# Altium footprint library TRANSISTOR.PcbLib: 7 footprints
Each footprint in its own frame and in the unit in brackets; x right, y up, seen from the top. Pads: shape width x height; smd on the part's side, far side on the other; paste and mask are expansions set on the pad; w line width, h text height; cw(c..) or ccw(c..) is an arc to the next point about the centre after c.
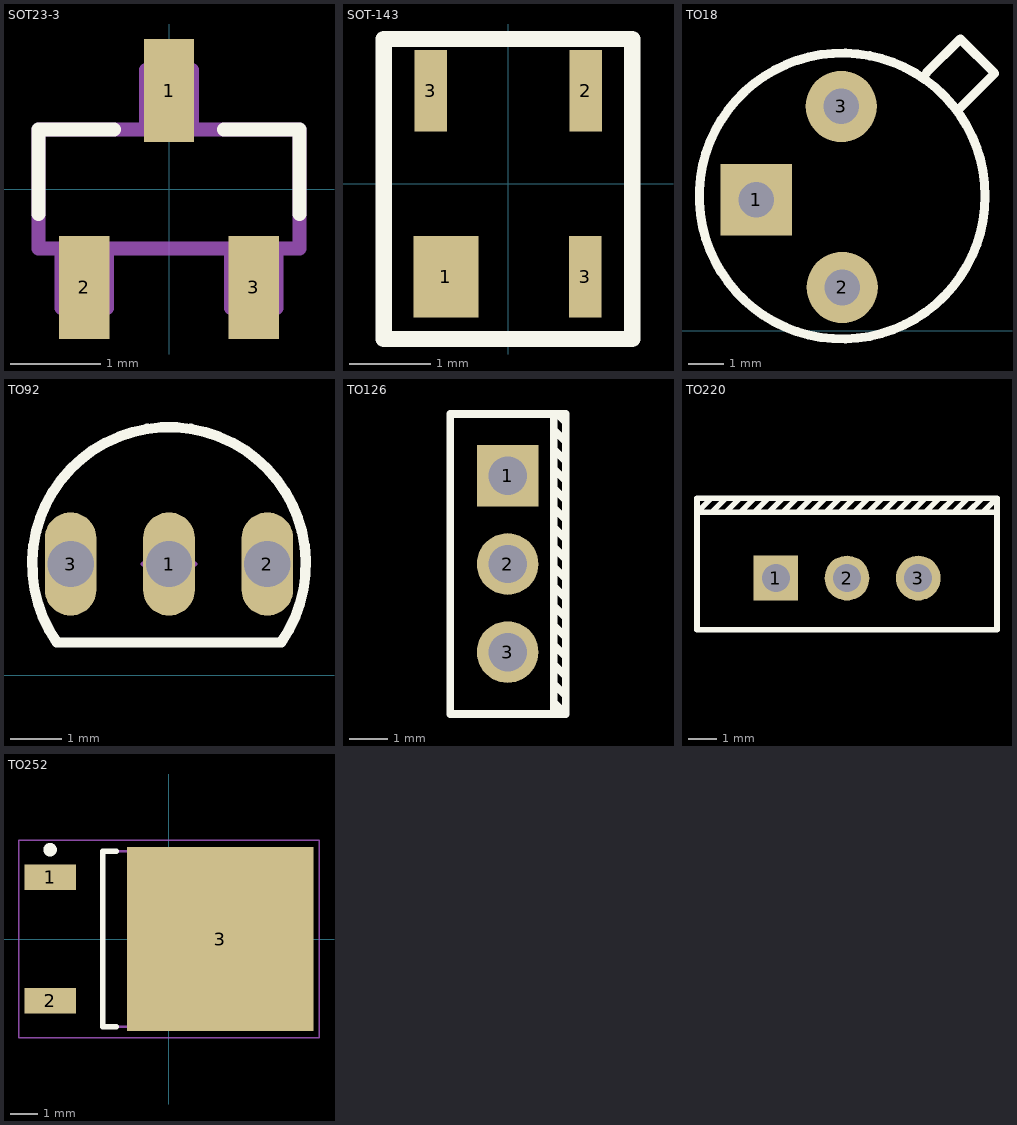
[diagram p0: the footprints below, top view; thin cyan lines are the x and y axes]

## SOT23-3 [mil]
pads (3):
  rect 22x45 smd: 1(0,43) 2(-37,-43) 3(37,-43)
Top Overlay:
  lines w6: -57,-11 -57,26 -24,26 ; 24,26 57,26 57,-11
Mechanical 13:
  lines w6: -57,-26 57,-26 57,26 -57,26 -57,-26 ; -47,-52 -47,-26 -27,-26 -27,-52 -47,-52 ; -10,26 10,26 10,52 -10,52 -10,26 ; 27,-52 27,-26 47,-26 47,-52 27,-52
3D body: height 23.62, standoff 3.94, extent -55,-20 55,25
3D body: height 7.87, standoff 0, extent -7.5,20 7.5,55
3D body: height 7.87, standoff 0, extent 30,-50 45,-20
3D body: height 7.87, standoff 0, extent -42.5,-52.5 -27.5,-20

## SOT-143 [mm] "SOT-143"
height 2.38
pads (4):
  rect 0.8x1 smd: 1(-0.762,-1.143)
  rect 0.4x1 smd: 2(0.955,1.143) 3(-0.95,1.143) 3(0.95,-1.143)
Top Overlay:
  lines w0.2: -1.524,-1.905 -1.524,1.778 1.524,1.778 1.524,-1.905 -1.524,-1.905
3D body "BAT74.STEP": height 1.1, standoff 0, extent -1.45,-1.15 1.45,1.15

## TO18 [mm]
pads (3):
  rect 2x2 hole 1: 1(3.048,3.683)
  round 2 hole 1: 2(5.461,1.219) 3(5.436,6.299)
Top Overlay:
  circle w0.254: c5.462,3.785 r4.012
  lines w0.254: 7.823,7.239 8.776,8.191 9.741,7.226 8.687,6.172
3D body "User Library-TO-18_2N2222.step": height 6.6, standoff -1.79, extent 2.534,0.883 8.142,6.491

## TO92 [mm]
pads (3):
  oval 1x2 hole 0.9: 1(6.096,2.159) 2(8.001,2.159) 3(4.191,2.159)
Top Overlay:
  lines w0.2: 3.925,0.639 cw(c6.096,2.159) 8.267,0.639 3.925,0.639
Mechanical 15:
  lines w0.1: 5.596,2.159 6.596,2.159 ; 6.096,1.659 6.096,2.659
3D body "2N3904--3DModel-STEP-56544.STEP": height 10.44, standoff -10, extent 3.816,0.612 8.376,4.445

## TO126 [mm]
pads (3):
  rect 1.6x1.6 hole 1: 1(9.017,6.985)
  round 1.6 hole 1: 2(9.017,4.695) 3(9.017,2.405)
Top Overlay:
  lines w0.2: 10.217,0.795 10.217,8.595 ; 10.217,1.105 10.527,0.795 ; 10.217,1.58 10.527,1.27 ; 10.217,2.088 10.527,1.778 ; 10.217,2.596 10.527,2.286 ; 10.217,3.104 10.527,2.794 ; 10.217,3.612 10.527,3.302 ; 10.217,4.12 10.527,3.81 ; 10.217,4.628 10.527,4.318 ; 10.217,5.136 10.527,4.826 ; 10.217,5.644 10.527,5.334 ; 10.217,6.152 10.527,5.842 ; 10.217,6.66 10.527,6.35 ; 10.217,7.168 10.527,6.858 ; 10.217,7.676 10.527,7.366 ; 10.217,8.184 10.527,7.874 ; 10.343,8.566 10.527,8.382 ; 10.527,0.795 10.527,8.595 7.527,8.595 7.527,0.795 10.527,0.795
Mechanical 13:
  lines w0.1: 7.527,0.795 10.527,0.795 10.527,8.595 7.527,8.595 7.527,0.795
Mechanical 15:
  lines w0.1: 9.017,4.195 9.017,5.195
3D body "BD136.STEP": height 14.2, standoff -12.85, extent 7.882,0.895 10.532,8.495

## TO220 [mm]
pads (3):
  rect 1.6x1.6 hole 1: 1(6.223,6.731)
  round 1.6 hole 1: 2(8.763,6.731) 3(11.303,6.731)
Top Overlay:
  lines w0.2: 3.413,9.081 14.113,9.081 ; 3.437,9.081 3.937,9.581 ; 3.945,9.081 4.445,9.581 ; 4.453,9.081 4.953,9.581 ; 4.961,9.081 5.461,9.581 ; 5.469,9.081 5.969,9.581 ; 5.977,9.081 6.477,9.581 ; 6.485,9.081 6.985,9.581 ; 6.993,9.081 7.493,9.581 ; 7.501,9.081 8.001,9.581 ; 8.009,9.081 8.509,9.581 ; 8.517,9.081 9.017,9.581 ; 9.025,9.081 9.525,9.581 ; 9.533,9.081 10.033,9.581 ; 10.041,9.081 10.541,9.581 ; 10.549,9.081 11.049,9.581 ; 11.057,9.081 11.557,9.581 ; 11.565,9.081 12.065,9.581 ; 12.073,9.081 12.573,9.581 ; 12.581,9.081 13.081,9.581 ; 13.089,9.081 13.589,9.581 ; 13.613,9.081 14.113,9.581 ; 14.113,9.581 14.113,4.881 3.413,4.881 3.413,9.581 14.113,9.581
Mechanical 15:
  lines w0.1: 8.263,6.731 9.263,6.731 ; 8.763,6.231 8.763,7.231
3D body "IRF640NPBF.STEP": height 21.24, standoff -10, extent 3.683,5.203 13.843,9.398

## TO252 [mm] "TO-252"
height 2.38
pads (3):
  rect 1.9x0.95 smd: 1(-4.4,2.28) 2(-4.4,-2.28)
  rect 6.9x6.8 smd: 3(1.9,0)
Top Overlay:
  circle w0.25: c-4.4,3.305 r0.125
  lines w0.2: -1.95,-3.25 -2.45,-3.25 -2.45,3.25 -1.95,3.25
Mechanical 13:
  lines w0.1: -2.45,-3.25 -2.45,3.25 3.75,3.25 3.75,-3.25 -2.45,-3.25
Mechanical 15:
  lines w0.05: -5.55,-3.65 -5.55,3.65 5.55,3.65 5.55,-3.65 -5.55,-3.65
  lines w0.1: -0.5,0 0.5,0 ; 0,-0.5 0,0.5
3D body: height 2.38, standoff 0, extent -2.45,-3.25 3.75,3.25
3D body: height 0.5, standoff 0, extent -4.572,-2.667 -2.413,-1.778
3D body: height 0.5, standoff 0, extent -4.635,1.842 -2.476,2.731